# Altium schematic symbol library REDFIT_6.Schlib: 1 symbol
Pins are listed as number, name and electrical type; pins without a type are passive.

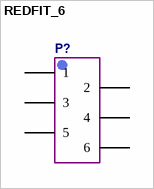
[diagram p0: symbol REDFIT_6]

## REDFIT_6
designator P?  (value not drawn)
pins: 1, 2, 3, 4, 5, 6